# Altium footprint library CAPC1005X050A.PcbLib: 3 footprints
Each footprint in its own frame and in the unit in brackets; x right, y up, seen from the top. Pads: shape width x height; smd on the part's side, far side on the other; paste and mask are expansions set on the pad; w line width, h text height; cw(c..) or ccw(c..) is an arc to the next point about the centre after c.
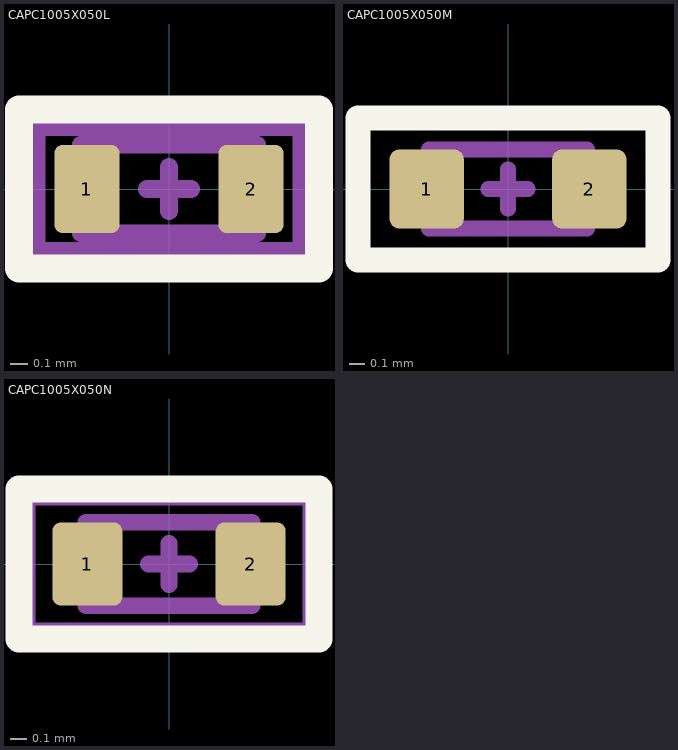
[diagram p0: the footprints below, top view; thin cyan lines are the x and y axes]

## CAPC1005X050L [mm] "Capacitors, Chip, Non-polarized"
height 0.7
pads (2):
  rrect25% 0.37x0.5 smd: 1(-0.465,0) 2(0.465,0)
Top Overlay:
  lines w0.16: -0.85,-0.45 0.85,-0.45 0.85,0.45 -0.85,0.45 -0.85,-0.45
Top Component Center:
  lines w0.1: -0.125,0 0.125,0 ; 0,-0.125 0,0.125
Top Courtyard:
  lines w0.1: -0.75,-0.35 0.75,-0.35 0.75,0.35 -0.75,0.35 -0.75,-0.35
Top Assembly:
  lines w0.1: -0.5,-0.25 0.5,-0.25 0.5,0.25 -0.5,0.25 -0.5,-0.25
  text ".Designator" at 0,0 h1
3D body "CAPC1005X050L.STEP": height 0.5, standoff 0, extent -0.5,-0.25 0.5,0.25

## CAPC1005X050M [mm] "Capacitors, Chip, Non-polarized"
height 0.7
pads (2):
  rrect25% 0.47x0.5 smd: 1(-0.515,0) 2(0.515,0)
Top Overlay:
  lines w0.16: -0.95,-0.45 0.95,-0.45 0.95,0.45 -0.95,0.45 -0.95,-0.45
Top Component Center:
  lines w0.1: -0.125,0 0.125,0 ; 0,-0.125 0,0.125
Top Courtyard:
  lines w0.1: -0.95,-0.45 0.95,-0.45 0.95,0.45 -0.95,0.45 -0.95,-0.45
Top Assembly:
  lines w0.1: -0.5,-0.25 0.5,-0.25 0.5,0.25 -0.5,0.25 -0.5,-0.25
  text ".Designator" at 0,0 h1
3D body "CAPC1005X050M.STEP": height 0.5, standoff 0, extent -0.5,-0.25 0.5,0.25

## CAPC1005X050N [mm] "Capacitors, Chip, Non-polarized"
height 0.7
pads (2):
  rrect25% 0.42x0.5 smd: 1(-0.49,0) 2(0.49,0)
Top Overlay:
  lines w0.16: -0.9,-0.45 0.9,-0.45 0.9,0.45 -0.9,0.45 -0.9,-0.45
Top Component Center:
  lines w0.1: -0.125,0 0.125,0 ; 0,-0.125 0,0.125
Top Courtyard:
  lines w0.1: -0.85,-0.4 0.85,-0.4 0.85,0.4 -0.85,0.4 -0.85,-0.4
Top Assembly:
  lines w0.1: -0.5,-0.25 0.5,-0.25 0.5,0.25 -0.5,0.25 -0.5,-0.25
  text ".Designator" at 0,0 h1
3D body "CAPC1005X050N.STEP": height 0.5, standoff 0, extent -0.5,-0.25 0.5,0.25